# Altium schematic symbol library SCH - OPAMP - DIODES AZV321.SCHLIB: 1 symbol
Pins are listed as number, name and electrical type; pins without a type are passive.

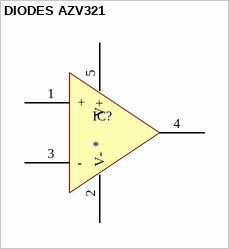
[diagram p0: symbol DIODES AZV321]

## DIODES AZV321
designator IC?
pins: 1 +, 2 V-, 3 -, 4 OUT, 5 V+